# Altium footprint library Switch.PcbLib: 1 footprints
Each footprint in its own frame and in the unit in brackets; x right, y up, seen from the top. Pads: shape width x height; smd on the part's side, far side on the other; paste and mask are expansions set on the pad; w line width, h text height; cw(c..) or ccw(c..) is an arc to the next point about the centre after c.
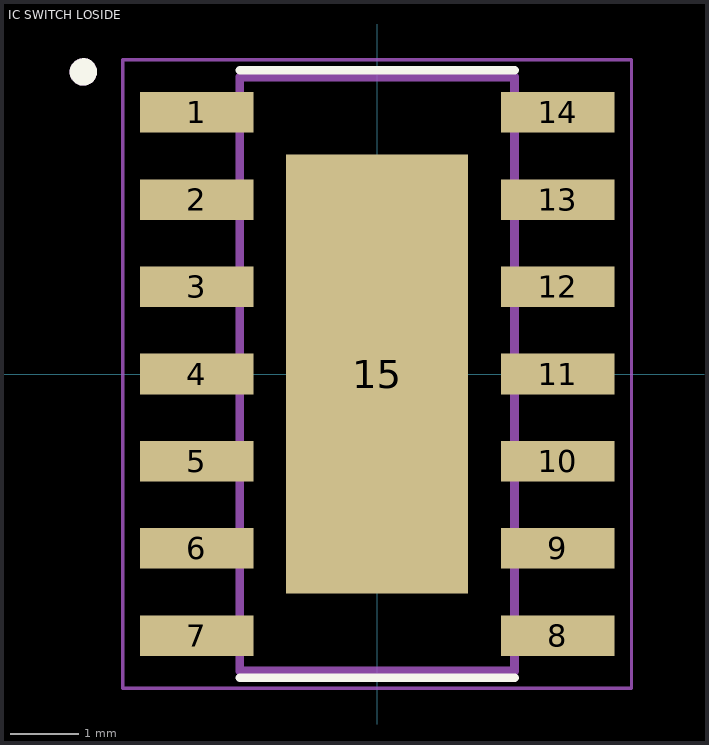
[diagram p0: the footprint, top view; thin cyan lines are the x and y axes]

## IC SWITCH LOSIDE [mm]
pads (15):
  rect 1.65x0.59 smd: 1(-2.63,3.81) 2(-2.63,2.54) 3(-2.63,1.27) 4(-2.63,0) 5(-2.63,-1.27) 6(-2.63,-2.54) 7(-2.63,-3.81) 8(2.63,-3.81) 9(2.63,-2.54) 10(2.63,-1.27) 11(2.63,0) 12(2.63,1.27) 13(2.63,2.54) 14(2.63,3.81)
  rect 2.65x6.4 smd: 15(0,0)
Top Overlay:
  circle w0.2: c-4.28,4.4 r0.1
  lines w0.127: -2,-4.425 2,-4.425 ; -2,4.425 2,4.425
Top Paste:
  region: -0.662,1.6 0.662,1.6 0.662,-1.6 -0.662,-1.6
Mechanical 4:
  circle w0.2: c-4.28,4.4 r0.1
  circle w0.2: c-4.28,4.4 r0.1
  lines w0.127: -2,-4.325 -2,4.325 ; -2,-4.325 2,-4.325 ; -2,-4.325 -2,4.325 ; -2,-4.325 2,-4.325 ; -2,4.325 2,4.325 ; -2,4.325 2,4.325 ; 2,-4.325 2,4.325 ; 2,-4.325 2,4.325
Mechanical 16:
  lines w0.05: -3.705,-4.575 -3.705,4.575 3.705,4.575 3.705,-4.575 -3.705,-4.575